# Altium footprint library 2440PCBV5_20140403.PcbLib: 166 footprints (part 4 of 11)
Each footprint in its own frame and in the unit in brackets; x right, y up, seen from the top. Pads: shape width x height; smd on the part's side, far side on the other; paste and mask are expansions set on the pad; w line width, h text height; cw(c..) or ccw(c..) is an arc to the next point about the centre after c.
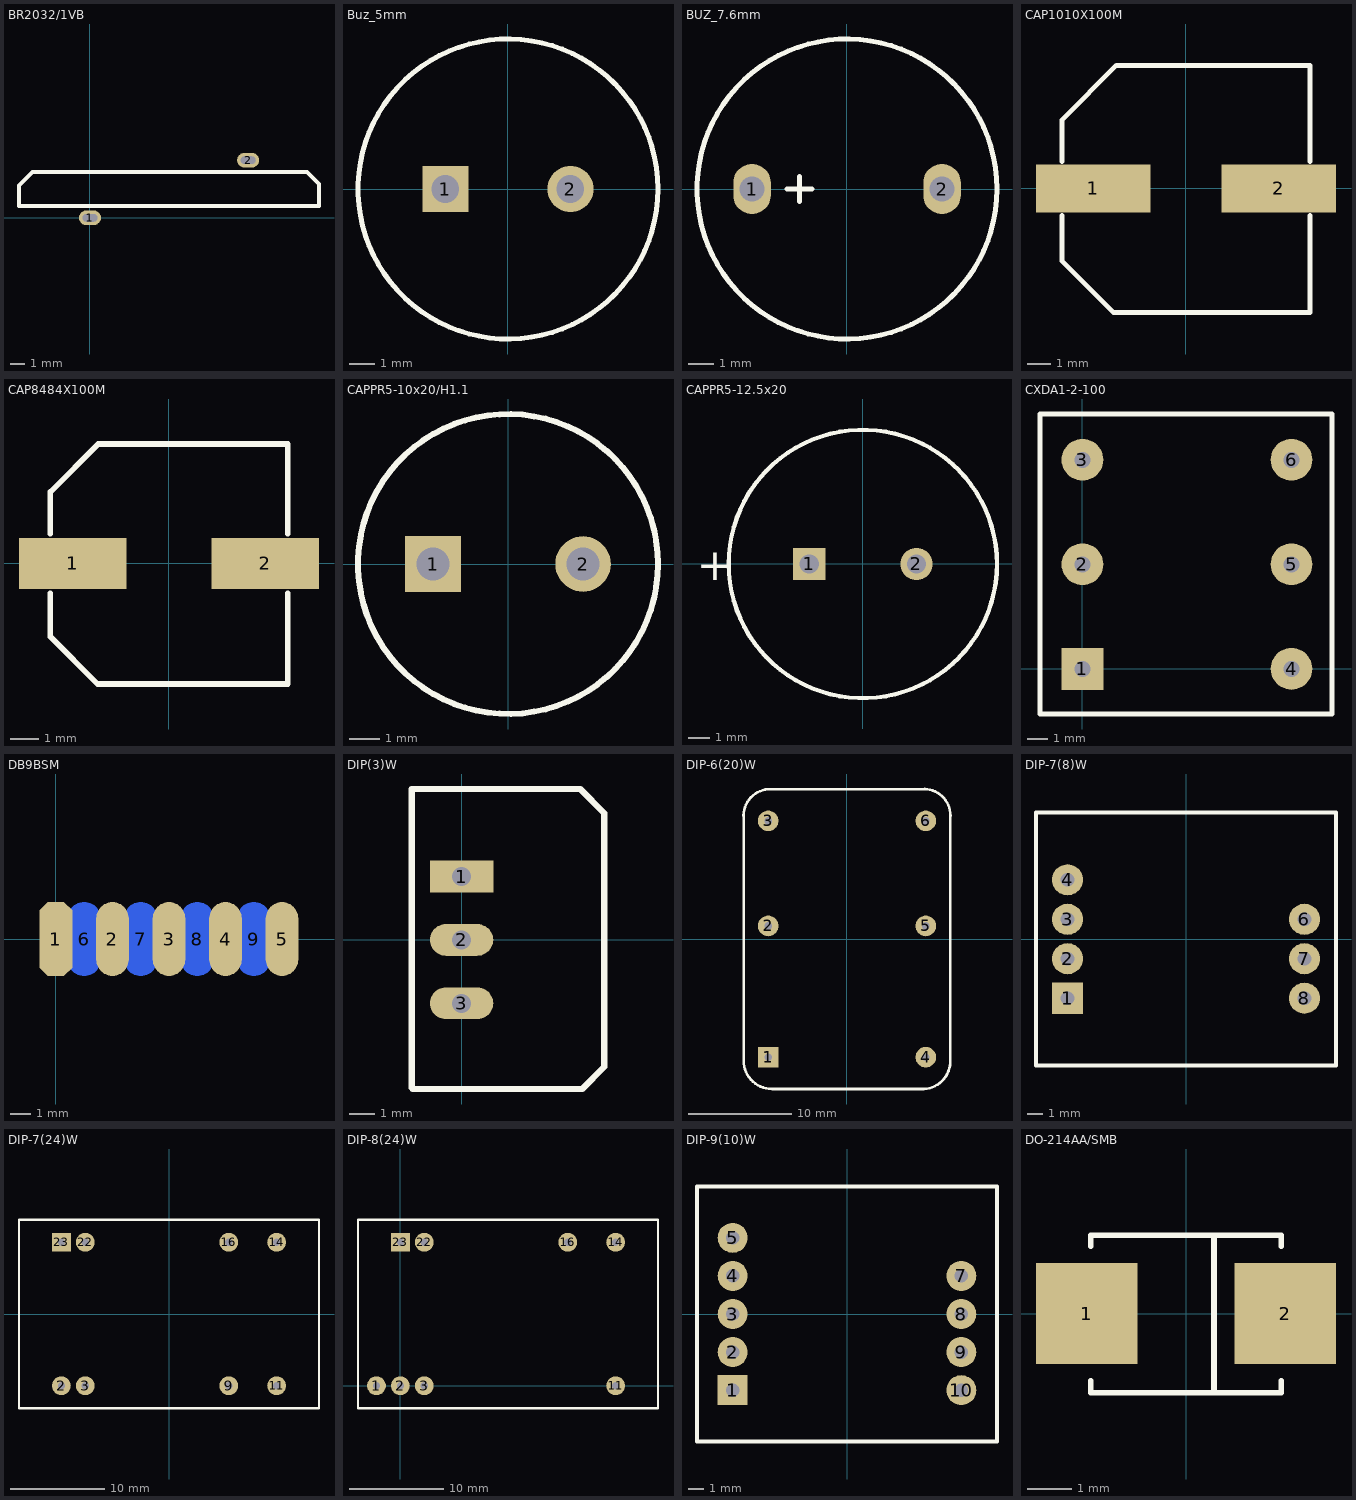
[diagram p3: the footprints below, top view; thin cyan lines are the x and y axes]

## BR2032/1VB [mm] "BR/CR2032/1VB"
pads (2):
  oval 1.5x1 hole 0.5 slot 1 at 0 deg: 1(0,0) 2(10.7,3.9)
Top Overlay:
  lines w0.254: -4.8,0.8 -4.8,2.185 -3.885,3.1 14.68,3.1 15.494,2.286 15.494,0.8 -4.8,0.8
3D body: height 21.51, standoff -3.5, extent -4.673,0.153 15.342,3.961

## Buz_5mm [mm] "7.6"
height 9
pads (2):
  rect 1.85x1.85 hole 1.1: 1(-2.5,0)
  round 1.85 hole 1.1: 2(2.5,0)
Top Overlay:
  circle w0.2: c0,0 r6
3D body: height 9.3, standoff -3.5, extent -5.969,-5.969 6.031,6.031

## BUZ_7.6mm [mm] "7.6"
height 7.8
pads (2):
  oval 1.5x2 hole 1: 1(-3.8,0) 2(3.8,0)
Top Overlay:
  circle w0.2: c0,0 r6
  lines w0.2: -2.405,0 -1.405,0 ; -1.905,-0.508 -1.905,0.492
3D body: height 9.3, standoff -3.5, extent -5.969,-5.969 6.031,6.031

## CAP1010X100M [mm]
height 10
pads (2):
  rect 4.8x2 smd: 1(-3.9,0) 2(3.9,0)
Top Overlay:
  lines w0.2: -5.207,-1.125 -5.207,-3.049 -3.042,-5.214 5.207,-5.214 5.207,-1.125 ; -5.207,1.125 -5.207,2.891 -2.929,5.169 5.207,5.169 5.207,1.125
3D body: height 10.2, standoff 0, extent -5.839,-5.19 5.761,5.11

## CAP8484X100M [mm]
height 10
pads (2):
  rect 3.8x1.8 smd: 1(-3.4,0) 2(3.4,0)
Top Overlay:
  lines w0.2: -4.191,-1.05 -4.191,-2.594 -2.522,-4.263 4.191,-4.263 4.191,-1.05 ; -4.191,1.05 -4.191,2.527 -2.499,4.219 4.191,4.219 4.191,1.05
3D body: height 6.2, standoff 0, extent -4.554,-4.155 4.446,4.145

## CAPPR5-10x20/H1.1 [mm] "Capacitor, Electrolytic, Radial; Body 10 x 20 mm (Dia.xH typ); Pin Spacing 5 mm (typ)"
height 21
pads (2):
  rect 1.85x1.85 hole 1.1: 1(-2.5,0)
  round 1.85 hole 1.1: 2(2.5,0)
Top Overlay:
  circle w0.2: c0,0 r5
3D body: height 20.32, standoff -2.9, extent -5.08,-5.08 5.08,5.054

## CAPPR5-12.5x20 [mm] "Capacitor, Electrolytic, Radial; Body 12.5 x 20 mm (Dia.xH typ); Pin Spacing 5 mm (typ)"
height 21.5
pads (2):
  rect 1.5x1.5 hole 0.9: 1(-2.5,0)
  round 1.5 hole 0.9: 2(2.5,0)
Top Overlay:
  circle w0.2: c0,0 r6.25
  text "+" at -7.725,-0.75 h1.5
3D body: height 9.99, standoff -29, extent -6.277,-6.35 6.223,6.15

## CXDA1-2-100 [mm]
height 12
pads (6):
  rect 2x2 hole 0.762: 1(0,0)
  round 2 hole 0.762: 2(0,5) 3(0,10) 4(10,0) 5(10,5) 6(10,10)
Top Overlay:
  lines w0.254: -2.032,-2.159 -2.032,12.192 11.938,12.192 11.938,-2.159 -2.032,-2.159

## DB9BSM [mil]
pads (9):
  oct 62.5x141.67 smd: 1(0,0)
  oval 62.5x141.67 smd: 2(108.33,0) 3(216.67,0) 4(325,0) 5(433.33,0)
  oval 62.5x141.67 smd far side: 6(54.17,0) 7(162.5,0) 8(270.83,0) 9(379.17,0)

## DIP(3)W [mil]
pads (3):
  rect 100x50 hole 30: 1(0,100)
  oval 100x50 hole 30: 2(0,0) 3(0,-100)
Top Overlay:
  lines w10: -78.74,-233.26 -77,-235 190,-235 225,-200 225,200 187,238 -78.74,238 -78.74,-233.26
3D body: height 393.7, standoff 0, extent -80.16,-233.96 226.32,238.24

## DIP-6(20)W [mm]
pads (6):
  rect 2x2 hole 0.762: 1(-7.62,-11.43)
  round 2 hole 0.762: 2(-7.62,1.27) 3(-7.62,11.43) 4(7.62,-11.43) 5(7.62,1.27) 6(7.62,11.43)
Top Overlay:
  lines w0.254: 7.239,14.5 -7.62,14.5 ccw(c-7.402,11.902) -10,11.684 -10,-11.734 ccw(c-7.244,-11.744) -7.255,-14.5 7.416,-14.5 ccw(c7.3,-11.8) 10,-11.684 10,11.927 ; 7.239,14.505 cw(c7.427,11.927) 10.011,11.938
3D body: height 10, standoff 0, extent -10.002,-14.542 10.115,14.483

## DIP-7(8)W [mm] "DIP; 8 Leads; Row Spacing 15.24 mm; Pitch 2.54 mm"
pads (7):
  rect 2x2 hole 0.889: 1(-7.62,-3.81)
  round 2 hole 0.889: 2(-7.62,-1.27) 3(-7.62,1.27) 4(-7.62,3.81) 6(7.62,1.27) 7(7.62,-1.27) 8(7.62,-3.81)
Top Overlay:
  lines w0.254: -9.652,-8.128 -9.652,8.128 9.652,8.128 9.652,-8.128 -9.652,-8.128
3D body: height 7, standoff 0, extent -9.644,-8.124 9.645,8.151

## DIP-7(24)W [mm]
pads (8):
  round 2 hole 0.762: 2(-11.43,-7.62) 3(-8.89,-7.62) 9(6.35,-7.62) 11(11.43,-7.62) 14(11.43,7.62) 16(6.35,7.62) 22(-8.89,7.62)
  rect 2x2 hole 0.762: 23(-11.43,7.62)
Top Overlay:
  lines w0.254: -15.93,-10.02 -15.93,10.02 15.93,10.02 15.93,-10.02 -15.93,-10.02
Bottom Overlay:
  text "5V" at 12.446,4.953 h0.8
  text "0V" at 6.985,4.826 h0.8
  text "24V" at -9.525,4.826 h0.8
  text "GND" at -9.017,-5.715 h0.8
  text "12V" at 12.7,-5.969 h0.8
3D body: height 10, standoff 0, extent -15.97,-10.032 15.938,10.048

## DIP-8(24)W [mm]
height 10
pads (8):
  round 2 hole 0.762: 1(-2.54,0) 2(0,0) 3(2.54,0) 11(22.86,0) 14(22.86,15.24) 16(17.78,15.24) 22(2.54,15.24)
  rect 2x2 hole 0.762: 23(0,15.24)
Top Overlay:
  lines w0.254: -4.5,-2.4 27.36,-2.4 27.36,17.64 -4.5,17.64 -4.5,-2.4
Bottom Overlay:
  text "GND" at 2.413,1.905 h0.8
  text "Vin" at 1.905,12.446 h0.8
  text "0V" at 18.415,12.446 h0.8
  text "+5V" at 23.876,12.573 h0.8
3D body: height 10, standoff 0, extent -4.54,-2.412 27.368,17.668

## DIP-9(10)W [mm] "DIP; 10 Leads; Row Spacing 15.24 mm; Pitch 2.54 mm"
height 7.05
pads (9):
  rect 2x2 hole 0.889: 1(-7.62,-5.08)
  round 2 hole 0.889: 2(-7.62,-2.54) 3(-7.62,0) 4(-7.62,2.54) 5(-7.62,5.08) 7(7.62,2.54) 8(7.62,0) 9(7.62,-2.54) 10(7.62,-5.08)
Top Overlay:
  lines w0.254: -10,-8.5 -10,8.5 10,8.5 10,-8.5 -10,-8.5

## DO-214AA/SMB [mm] "DO-214-AA/SMB; 2 C-Bend Leads; Body 5.3 x 3.6 mm, inc. leads (LxW)"
height 2.54
pads (2):
  rect 2.3x2.3 smd: 1(-2.25,0) 2(2.25,0)
Top Overlay:
  lines w0.127: -2.159,-1.524 -2.159,-1.8 2.159,-1.8 2.159,-1.524 ; -2.159,1.524 -2.159,1.778 2.159,1.778 2.159,1.524 ; 0.635,-1.778 0.635,1.778
3D body: height 2.27, standoff -0.03, extent -2.7,-1.8 2.7,1.8